# EAGLE library part RJ45-J0026 (library JLB6_Connec)
RJ45 PulseJack w/LEDs
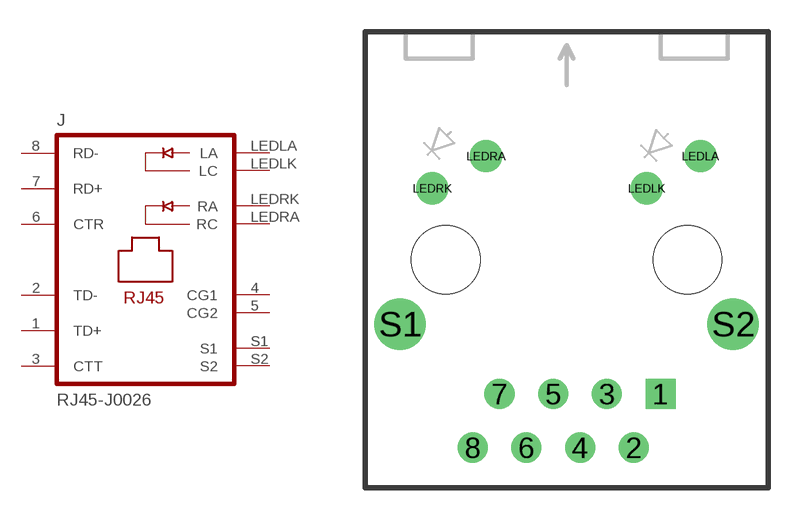
[diagram p66: symbol with the pads of PJ-J0; footprint PJ-J0]

Designator prefix J

## RJ45-J0026  [PJ-J0]
1  TD+
2  TD-
3  CTT
4  CG1  pas
5  CG2  pas
6  CTR
7  RD+
8  RD-
LEDLA  LA  pas
LEDLK  LC  pas
LEDRA  RC  pas
LEDRK  RA  pas
S1  S1  pas
S2  S2  pas

## Footprint PJ-J0 (pad centres in mm)
pulse jack
drill 0.914 square: 1 4.445,-6.35
drill 0.914: 2 3.175,-8.89; 3 1.905,-6.35; 4 0.635,-8.89; 5 -0.635,-6.35; 6 -1.905,-8.89; 7 -3.175,-6.35; 8 -4.445,-8.89
drill 1.016: LEDLA 6.325,4.902; LEDLK 3.785,3.378; LEDRA -3.81,4.902; LEDRK -6.35,3.378
drill 1.626: S1 -7.874,-3.048; S2 7.874,-3.048
hole 3.251 at -5.715,0
hole 3.251 at 5.715,0